# Altium schematic symbol library Schlib1.SchLib: 1 symbol
Pins are listed as number, name and electrical type; pins without a type are passive.

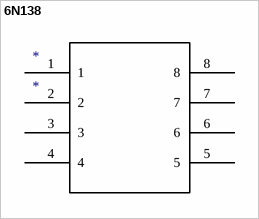
[diagram p0: symbol 6N138]

## 6N138
designator *
footprint DIP-8 (Footprint not found)
pins: 1, 2, 3, 4, 5, 6, 7, 8